# Altium footprint library LQFP64-5W.PcbLib: 4 footprints
Each footprint in its own frame and in the unit in brackets; x right, y up, seen from the top. Pads: shape width x height; smd on the part's side, far side on the other; paste and mask are expansions set on the pad; w line width, h text height; cw(c..) or ccw(c..) is an arc to the next point about the centre after c.
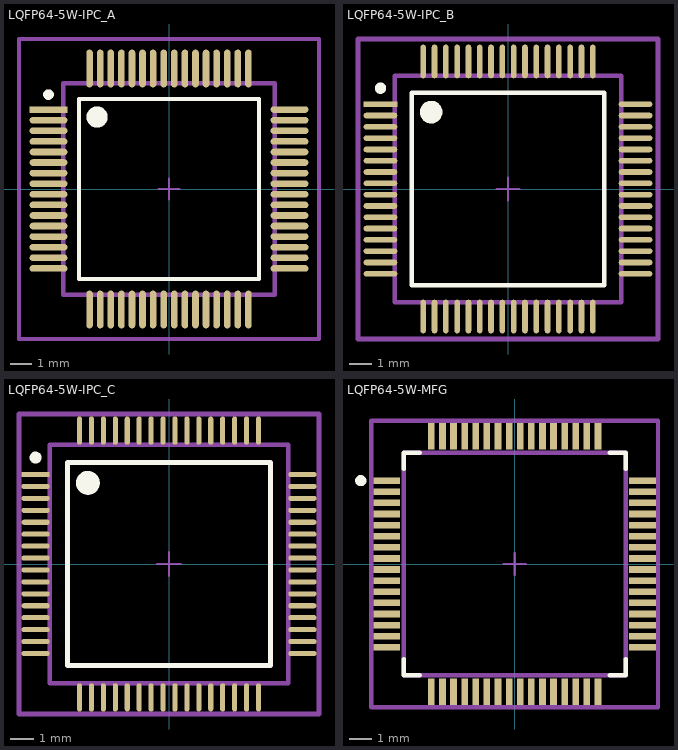
[diagram p0: the footprints below, top view; thin cyan lines are the x and y axes]

## LQFP64-5W-IPC_A [mm]
pads (64):
  rect 1.788x0.312 smd paste+0 mask+0: 1(-5.691,3.75)
  rrect100% 1.788x0.312 smd paste+0 mask+0: 2(-5.691,3.25) 3(-5.691,2.75) 4(-5.691,2.25) 5(-5.691,1.75) 6(-5.691,1.25) 7(-5.691,0.75) 8(-5.691,0.25) 9(-5.691,-0.25) 10(-5.691,-0.75) 11(-5.691,-1.25) 12(-5.691,-1.75) 13(-5.691,-2.25) 14(-5.691,-2.75) 15(-5.691,-3.25) 16(-5.691,-3.75) 33(5.691,-3.75) 34(5.691,-3.25) 35(5.691,-2.75) 36(5.691,-2.25) 37(5.691,-1.75) 38(5.691,-1.25) 39(5.691,-0.75) 40(5.691,-0.25) 41(5.691,0.25) 42(5.691,0.75) 43(5.691,1.25) 44(5.691,1.75) 45(5.691,2.25) 46(5.691,2.75) 47(5.691,3.25) 48(5.691,3.75)
  rrect100% 0.312x1.788 smd paste+0 mask+0: 17(-3.75,-5.691) 18(-3.25,-5.691) 19(-2.75,-5.691) 20(-2.25,-5.691) 21(-1.75,-5.691) 22(-1.25,-5.691) 23(-0.75,-5.691) 24(-0.25,-5.691) 25(0.25,-5.691) 26(0.75,-5.691) 27(1.25,-5.691) 28(1.75,-5.691) 29(2.25,-5.691) 30(2.75,-5.691) 31(3.25,-5.691) 32(3.75,-5.691) 49(3.75,5.691) 50(3.25,5.691) 51(2.75,5.691) 52(2.25,5.691) 53(1.75,5.691) 54(1.25,5.691) 55(0.75,5.691) 56(0.25,5.691) 57(-0.25,5.691) 58(-0.75,5.691) 59(-1.25,5.691) 60(-1.75,5.691) 61(-2.25,5.691) 62(-2.75,5.691) 63(-3.25,5.691) 64(-3.75,5.691)
Top Overlay:
  circle w0.25: c-5.691,4.46 r0.125
  circle w0.5: c-3.4,3.4 r0.25
  lines w0.2: -4.25,-4.25 4.25,-4.25 4.25,4.25 -4.25,4.25 -4.25,-4.25
Top Assembly:
  lines w0.2: -7.085,-7.085 7.085,-7.085 7.085,7.085 -7.085,7.085 -7.085,-7.085
  text ".Designator" at 0,-0.001 h1
Top 3D Body:
  lines w0.2: -5,-5 5,-5 5,5 -5,5 -5,-5
Top Courtyard:
  lines w0.2: -7.085,-7.085 7.085,-7.085 7.085,7.085 -7.085,7.085 -7.085,-7.085
Top Component Center:
  lines w0.1: -0.5,0 0.5,0 ; 0,-0.5 0,0.5
3D body "IC_STMicroelectronics_STM32L431RCT6_eec.STEP": height 0.25, standoff 0, extent -7.085,-7.085 7.085,7.085

## LQFP64-5W-IPC_B [mm]
pads (64):
  rect 1.488x0.252 smd paste+0 mask+0: 1(-5.641,3.75)
  rrect100% 1.488x0.252 smd paste+0 mask+0: 2(-5.641,3.25) 3(-5.641,2.75) 4(-5.641,2.25) 5(-5.641,1.75) 6(-5.641,1.25) 7(-5.641,0.75) 8(-5.641,0.25) 9(-5.641,-0.25) 10(-5.641,-0.75) 11(-5.641,-1.25) 12(-5.641,-1.75) 13(-5.641,-2.25) 14(-5.641,-2.75) 15(-5.641,-3.25) 16(-5.641,-3.75) 33(5.641,-3.75) 34(5.641,-3.25) 35(5.641,-2.75) 36(5.641,-2.25) 37(5.641,-1.75) 38(5.641,-1.25) 39(5.641,-0.75) 40(5.641,-0.25) 41(5.641,0.25) 42(5.641,0.75) 43(5.641,1.25) 44(5.641,1.75) 45(5.641,2.25) 46(5.641,2.75) 47(5.641,3.25) 48(5.641,3.75)
  rrect100% 0.252x1.488 smd paste+0 mask+0: 17(-3.75,-5.641) 18(-3.25,-5.641) 19(-2.75,-5.641) 20(-2.25,-5.641) 21(-1.75,-5.641) 22(-1.25,-5.641) 23(-0.75,-5.641) 24(-0.25,-5.641) 25(0.25,-5.641) 26(0.75,-5.641) 27(1.25,-5.641) 28(1.75,-5.641) 29(2.25,-5.641) 30(2.75,-5.641) 31(3.25,-5.641) 32(3.75,-5.641) 49(3.75,5.641) 50(3.25,5.641) 51(2.75,5.641) 52(2.25,5.641) 53(1.75,5.641) 54(1.25,5.641) 55(0.75,5.641) 56(0.25,5.641) 57(-0.25,5.641) 58(-0.75,5.641) 59(-1.25,5.641) 60(-1.75,5.641) 61(-2.25,5.641) 62(-2.75,5.641) 63(-3.25,5.641) 64(-3.75,5.641)
Top Overlay:
  circle w0.25: c-5.641,4.46 r0.125
  circle w0.5: c-3.4,3.4 r0.25
  lines w0.2: -4.25,-4.25 4.25,-4.25 4.25,4.25 -4.25,4.25 -4.25,-4.25
Top Assembly:
  lines w0.2: -6.635,-6.635 6.635,-6.635 6.635,6.635 -6.635,6.635 -6.635,-6.635
  text ".Designator" at 0,-0.001 h1
Top 3D Body:
  lines w0.2: -5,-5 5,-5 5,5 -5,5 -5,-5
Top Courtyard:
  lines w0.2: -6.635,-6.635 6.635,-6.635 6.635,6.635 -6.635,6.635 -6.635,-6.635
Top Component Center:
  lines w0.1: -0.5,0 0.5,0 ; 0,-0.5 0,0.5
3D body "IC_STMicroelectronics_STM32L431RCT6_eec.STEP": height 0.25, standoff 0, extent -6.635,-6.635 6.635,6.635

## LQFP64-5W-IPC_C [mm]
pads (64):
  rect 1.188x0.212 smd paste+0 mask+0: 1(-5.591,3.75)
  rrect100% 1.188x0.212 smd paste+0 mask+0: 2(-5.591,3.25) 3(-5.591,2.75) 4(-5.591,2.25) 5(-5.591,1.75) 6(-5.591,1.25) 7(-5.591,0.75) 8(-5.591,0.25) 9(-5.591,-0.25) 10(-5.591,-0.75) 11(-5.591,-1.25) 12(-5.591,-1.75) 13(-5.591,-2.25) 14(-5.591,-2.75) 15(-5.591,-3.25) 16(-5.591,-3.75) 33(5.591,-3.75) 34(5.591,-3.25) 35(5.591,-2.75) 36(5.591,-2.25) 37(5.591,-1.75) 38(5.591,-1.25) 39(5.591,-0.75) 40(5.591,-0.25) 41(5.591,0.25) 42(5.591,0.75) 43(5.591,1.25) 44(5.591,1.75) 45(5.591,2.25) 46(5.591,2.75) 47(5.591,3.25) 48(5.591,3.75)
  rrect100% 0.212x1.188 smd paste+0 mask+0: 17(-3.75,-5.591) 18(-3.25,-5.591) 19(-2.75,-5.591) 20(-2.25,-5.591) 21(-1.75,-5.591) 22(-1.25,-5.591) 23(-0.75,-5.591) 24(-0.25,-5.591) 25(0.25,-5.591) 26(0.75,-5.591) 27(1.25,-5.591) 28(1.75,-5.591) 29(2.25,-5.591) 30(2.75,-5.591) 31(3.25,-5.591) 32(3.75,-5.591) 49(3.75,5.591) 50(3.25,5.591) 51(2.75,5.591) 52(2.25,5.591) 53(1.75,5.591) 54(1.25,5.591) 55(0.75,5.591) 56(0.25,5.591) 57(-0.25,5.591) 58(-0.75,5.591) 59(-1.25,5.591) 60(-1.75,5.591) 61(-2.25,5.591) 62(-2.75,5.591) 63(-3.25,5.591) 64(-3.75,5.591)
Top Overlay:
  circle w0.25: c-5.591,4.46 r0.125
  circle w0.5: c-3.4,3.4 r0.25
  lines w0.2: -4.25,-4.25 4.25,-4.25 4.25,4.25 -4.25,4.25 -4.25,-4.25
Top Assembly:
  lines w0.2: -6.285,-6.285 6.285,-6.285 6.285,6.285 -6.285,6.285 -6.285,-6.285
  text ".Designator" at 0,-0.001 h1
Top 3D Body:
  lines w0.2: -5,-5 5,-5 5,5 -5,5 -5,-5
Top Courtyard:
  lines w0.2: -6.285,-6.285 6.285,-6.285 6.285,6.285 -6.285,6.285 -6.285,-6.285
Top Component Center:
  lines w0.1: -0.5,0 0.5,0 ; 0,-0.5 0,0.5
3D body "IC_STMicroelectronics_STM32L431RCT6_eec.STEP": height 0.25, standoff 0, extent -6.285,-6.285 6.285,6.285

## LQFP64-5W-MFG [mm]
pads (64):
  rect 1.2x0.3 smd paste+0 mask+0: 1(-5.75,3.75) 2(-5.75,3.25) 3(-5.75,2.75) 4(-5.75,2.25) 5(-5.75,1.75) 6(-5.75,1.25) 7(-5.75,0.75) 8(-5.75,0.25) 9(-5.75,-0.25) 10(-5.75,-0.75) 11(-5.75,-1.25) 12(-5.75,-1.75) 13(-5.75,-2.25) 14(-5.75,-2.75) 15(-5.75,-3.25) 16(-5.75,-3.75) 33(5.75,-3.75) 34(5.75,-3.25) 35(5.75,-2.75) 36(5.75,-2.25) 37(5.75,-1.75) 38(5.75,-1.25) 39(5.75,-0.75) 40(5.75,-0.25) 41(5.75,0.25) 42(5.75,0.75) 43(5.75,1.25) 44(5.75,1.75) 45(5.75,2.25) 46(5.75,2.75) 47(5.75,3.25) 48(5.75,3.75)
  rect 0.3x1.2 smd paste+0 mask+0: 17(-3.75,-5.75) 18(-3.25,-5.75) 19(-2.75,-5.75) 20(-2.25,-5.75) 21(-1.75,-5.75) 22(-1.25,-5.75) 23(-0.75,-5.75) 24(-0.25,-5.75) 25(0.25,-5.75) 26(0.75,-5.75) 27(1.25,-5.75) 28(1.75,-5.75) 29(2.25,-5.75) 30(2.75,-5.75) 31(3.25,-5.75) 32(3.75,-5.75) 49(3.75,5.75) 50(3.25,5.75) 51(2.75,5.75) 52(2.25,5.75) 53(1.75,5.75) 54(1.25,5.75) 55(0.75,5.75) 56(0.25,5.75) 57(-0.25,5.75) 58(-0.75,5.75) 59(-1.25,5.75) 60(-1.75,5.75) 61(-2.25,5.75) 62(-2.75,5.75) 63(-3.25,5.75) 64(-3.75,5.75)
Top Overlay:
  circle w0.25: c-6.925,3.75 r0.125
  lines w0.2: -5,-4.275 -5,-5 -4.275,-5 ; -5,4.275 -5,5 -4.275,5 ; 4.275,-5 5,-5 5,-4.275 ; 4.275,5 5,5 5,4.275
Top Assembly:
  lines w0.2: -6.45,-6.45 -6.45,6.45 6.45,6.45 6.45,-6.45 -6.45,-6.45
  text ".Designator" at 0,0.188 h1
Top 3D Body:
  lines w0.2: -5,-5 -5,5 5,5 5,-5 -5,-5
Top Courtyard:
  lines w0.2: -6.45,-6.45 -6.45,6.45 6.45,6.45 6.45,-6.45 -6.45,-6.45
Top Component Center:
  lines w0.1: -0.5,0 0.5,0 ; 0,-0.5 0,0.5
3D body "IC_STMicroelectronics_STM32L496RGT3_eec.STEP": height 0.25, standoff 0, extent -6.45,-6.45 6.45,6.45